# Altium schematic symbol library lianche_noBOM_lib.SchLib: 15 symbols
Pins are listed as number, name and electrical type; pins without a type are passive.

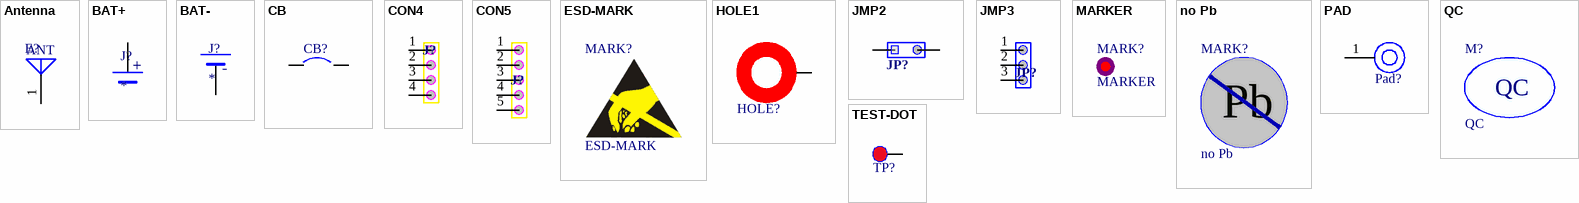
[diagram p0: symbols Antenna to TEST-DOT]

## Antenna
designator E?  value ANT  (hidden comment: Antenna)
Generic Antenna
footprint PAD-1×1
pins: 1 A

## BAT+
designator J?
footprint HOLE-2×1
pins: 1 +

## BAT-
designator J?
footprint HOLE-2×1
pins: 1 -

## CB
designator CB?  (no BOM)
footprint JUMP-2
footprint JUMP-2-1 (1.5)
pins: 1, 2

## CON4
designator J?  (value not drawn)
名称: 排针; 型号: 1x4,2.54mm; 封装: SIP-4; Value: 2.54-4P
footprint SIP-4
pins: 1, 2, 3, 4
2 alternate drawings of the same symbol

## CON5
designator J?  (value not drawn)
名称: 排针; 型号: 1x5,2.54mm; 封装: SIP-5; Value: 2.54-5P
footprint SIP-5
pins: 1, 2, 3, 4, 5
2 alternate drawings of the same symbol

## ESD-MARK
designator MARK?  (no BOM)
footprint ESD-7
2 alternate drawings of the same symbol

## HOLE1
designator HOLE?  (value not drawn)  (no BOM)
footprint HOLE-2.2
footprint HOLE-2.7
footprint HOLE-3.8
footprint HOLE-3.2
pins: 1

## JMP2
designator JP?  (value not drawn)
名称: 排针; 型号: 1x2,2.54mm; 封装: SIP-2
footprint JUMP-2L
footprint SIP-2
footprint HD-2×1.5
pins: 1, 2
2 alternate drawings of the same symbol

## JMP3
designator JP?  (value not drawn)
名称: 排针; 型号: 1x3,2.54mm; 封装: SIP-3; Value: 2.54-3P
footprint SIP-3
pins: 1, 2, 3
2 alternate drawings of the same symbol

## MARKER
designator MARK?  (no BOM)
footprint MARKER-C-1.0M
footprint MARKER-C-0.8M
pins: 0

## no Pb
designator MARK?  (no BOM)
footprint no Pb-4
footprint no Pb-8 (Footprint not found)
text: Pb

## PAD
designator Pad?
footprint PAD-1×1_+
footprint PAD-2×1.5_-
footprint PAD-2×2_+
footprint PAD-3×2_+
footprint PAD-3×2_-
pins: 1

## QC
designator M?  (no BOM)
footprint QC

## TEST-DOT
designator TP?, comment TEST-DOT,1.0mm  (value not drawn)  (no BOM)
footprint PAD-50 (TEST-P)
footprint PAD-25/40
footprint PAD-40
footprint PAD-60
pins: 1